# Altium footprint library SnapEDApcb.PcbLib: 5 footprints
Each footprint in its own frame and in the unit in brackets; x right, y up, seen from the top. Pads: shape width x height; smd on the part's side, far side on the other; paste and mask are expansions set on the pad; w line width, h text height; cw(c..) or ccw(c..) is an arc to the next point about the centre after c.
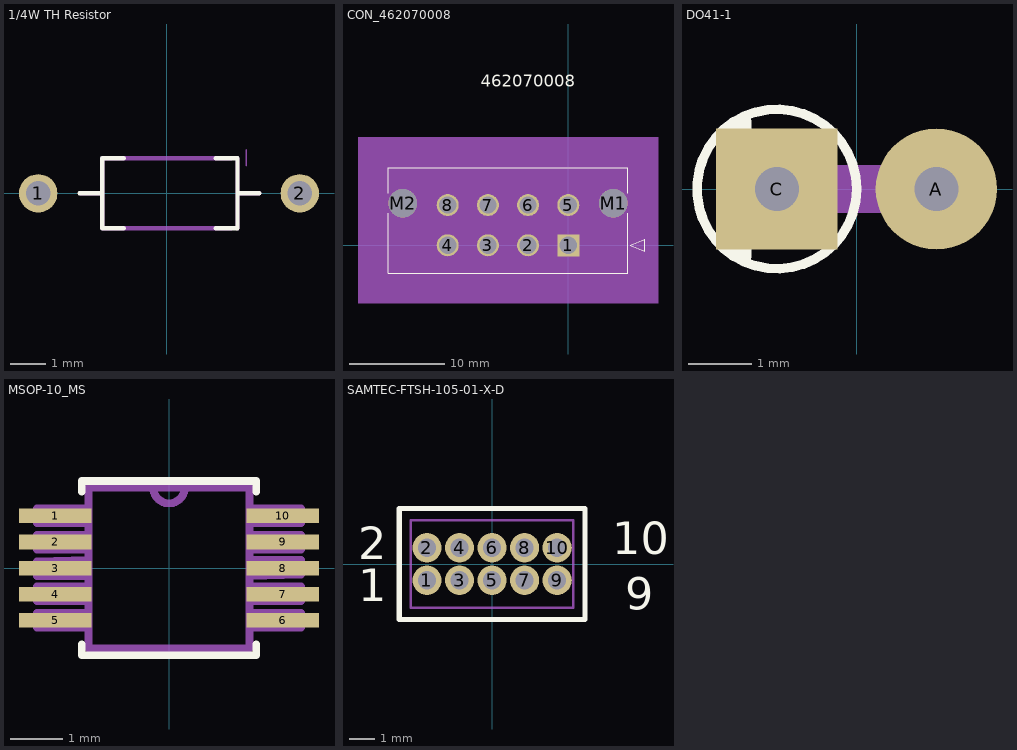
[diagram p0: the footprints below, top view; thin cyan lines are the x and y axes]

## 1/4W TH Resistor [mm]
pads (2):
  round 1.1 hole 0.7: 1(-3.683,0) 2(3.81,0)
Top Overlay:
  lines w0.127: -2.5,0 -1.88,0 ; -1.23,-1 -1.85,-1 -1.85,0 -1.85,1 -1.23,1 ; 1.405,-1 2.025,-1 2.025,0 ; 1.405,1 2.025,1 2.025,0 ; 2.645,0 2.025,0
Mechanical 13:
  lines w0.127: -2.47,0 -1.85,0 ; 1.85,-1 -1.85,-1 -1.85,0 ; 1.85,1 -1.85,1 -1.85,0 ; 2.025,-1 2.025,0 ; 2.025,1 2.025,0 ; 2.645,0 2.025,0
Mechanical 15:
  lines w0.05: 2.275,0.8 2.275,1.25
3D body "axial resistor 6mm 7.6pitch.STEP": height 2.17, standoff -2.97, extent -3.925,-1.125 3.975,1.025

## CON_462070008 [mm]
pads (10):
  rect 2.3x2.3 hole 1.8 mask+0.076: 1(0,0)
  round 2.3 hole 1.8 mask+0.076: 2(-4.2,0) 3(-8.4,0) 4(-12.6,0) 5(0,4.2) 6(-4.2,4.2) 7(-8.4,4.2) 8(-12.6,4.2)
  round 3 hole 3 unplated mask+0.076: M1(4.7,4.391) M2(-17.3,4.391)
Top Overlay:
  lines w0.127: -18.8,3.365 -18.8,-2.9 6.2,-2.9 6.2,3.365 ; -18.8,5.417 -18.8,8.1 6.2,8.1 6.2,5.417 ; 6.454,0 7.978,0.635 7.978,-0.635 6.454,0
  text "462070008" at -9.157,16.57 h1.27
Mechanical 3:
  text "PTH_DRILL_SIZE:_1.8_MM,_TOL:_+0.05/-0.05" at -19,-10.1 h1.27
  text "NPTH_DRILL_SIZE:_3.0_MM,_TOL:_+0.03/-0.03" at -19.317,-12.64 h1.27
Mechanical 5:
  region: -21.975,11.275 9.375,11.275 9.375,-6.075 -21.975,-6.075
Mechanical 10:
  text "PTH_DRILL_SIZE:_1.8_MM,_TOL:_+0.05/-0.05" at -19,-10.1 h1.27
  text "NPTH_DRILL_SIZE:_3.0_MM,_TOL:_+0.03/-0.03" at -19.317,-12.64 h1.27
Mechanical 13:
  lines w0.127: -18.8,-2.9 6.2,-2.9 6.2,8.1 -18.8,8.1 -18.8,-2.9 ; 6.454,0 7.978,0.635 7.978,-0.635 6.454,0
  text "462070008" at -9.157,16.57 h1.27
Mechanical 15:
  region: 7.47,9.37 -20.07,9.37 -20.07,-4.17 7.47,-4.17
  lines w0.127: -20.07,-4.17 -20.07,9.37 7.47,9.37 7.47,-4.17 -20.07,-4.17
3D body "462070008.stp": height 13.15, standoff -4.11, extent -18.775,-2.875 6.285,8.125
3D body: height 0.25, standoff 0, extent 0,0 0.254,0.254

## DO41-1 [mil]
pads (2):
  round 76 hole 27.56: A(50,0)
  rect 76x76 hole 27.56: C(-50,0)
Top Overlay:
  circle w6: c-50,0 r50
  lines w10: -80,-37 -80,37 ; -71,-42 -71,42
Mechanical 13:
  lines w30: -45,0 50,0

## MSOP-10_MS [mil]
pads (10):
  rect 55x11 smd: 1(-86,39.4) 2(-86,19.7) 3(-86,0) 4(-86,-19.7) 5(-86,-39.4) 6(86,-39.4) 7(86,-19.7) 8(86,0) 9(86,19.7) 10(86,39.4)
Top Overlay:
  lines w6: -66,-58 -66,-66 66,-66 66,-58 ; -66,58 -66,66 66,66 66,58
Mechanical 13:
  lines w6: -12,61 ccw(c0,61) 12,61 ; -12,61 12,61 ; -12,61 -61,61 -61,-61 61,-61 61,61 12,61 ; -100,-45 -100,-34 -61,-34 -61,-45 -100,-45 ; -100,-25 -100,-14 -61,-14 -61,-25 -100,-25 ; -100,-6 -100,5 -61,6 -61,-6 -100,-6 ; -100,14 -100,25 -61,25 -61,14 -100,14 ; -100,34 -100,45 -61,45 -61,34 -100,34 ; 61,-45 61,-34 100,-34 100,-45 61,-45 ; 61,-25 61,-14 100,-14 100,-25 61,-25 ; 61,-6 61,6 100,6 100,-5 61,-6 ; 61,14 61,25 100,25 100,14 61,14 ; 61,34 61,45 100,45 100,34 61,34

## SAMTEC-FTSH-105-01-X-D [mil]
pads (10):
  round 45 hole 27.95 mask+0: 1(-100,-25) 2(-100,25) 3(-50,-25) 4(-50,25) 5(0,-25) 6(0,25) 7(50,-25) 8(50,25) 9(100,-25) 10(100,25)
Top Overlay:
  lines w7.87: -142.72,-85.24 142.72,-85.24 142.72,85.24 -142.72,85.24 -142.72,-85.24
  text "10" at 185,15 h50
  text "9" at 205,-70 h50
  text "2" at -206.02,7.01 h50
  text "1" at -206.02,-57.01 h50
Top Solder:
  circle w0: c100,25 r24.49
  circle w0: c100,-25 r24.49
  circle w0: c50,25 r24.49
  circle w0: c50,-25 r24.49
  circle w0: c0,25 r24.49
  circle w0: c0,-25 r24.49
  circle w0: c-50,25 r24.49
  circle w0: c-50,-25 r24.49
  circle w0: c-100,25 r24.49
  circle w0: c-100,-25 r24.49
Bottom Solder:
  circle w0: c100,25 r24.49
  circle w0: c100,-25 r24.49
  circle w0: c50,25 r24.49
  circle w0: c50,-25 r24.49
  circle w0: c0,25 r24.49
  circle w0: c0,-25 r24.49
  circle w0: c-50,25 r24.49
  circle w0: c-50,-25 r24.49
  circle w0: c-100,25 r24.49
  circle w0: c-100,-25 r24.49
Mechanical 13:
  lines w3.94: -125,-67.48 -125,67.48 ; -125,-67.48 -75,-67.48 ; -125,-67.48 -75,-67.48 ; -125,67.48 -75,67.48 ; -125,67.48 -75,67.48 ; -107.99,-32.99 -107.99,-17.01 ; -107.99,-32.99 -92.01,-32.99 ; -107.99,-32.99 -92.01,-32.99 ; -107.99,-32.99 -107.99,-17.01 ; -107.99,-17.01 -92.01,-17.01 ; -107.99,-17.01 -92.01,-17.01 ; -107.99,17.01 -107.99,32.99 ; -107.99,17.01 -92.01,17.01 ; -107.99,17.01 -92.01,17.01 ; -107.99,17.01 -107.99,32.99 ; -107.99,32.99 -92.01,32.99 ; -107.99,32.99 -92.01,32.99 ; -92.01,-32.99 -92.01,-17.01 ; -92.01,-32.99 -92.01,-17.01 ; -92.01,17.01 -92.01,32.99 ; -92.01,17.01 -92.01,32.99 ; -75,-67.48 -25,-67.48 ; -75,-67.48 -25,-67.48 ; -75,67.48 -25,67.48 ; -75,67.48 -25,67.48 ; -57.99,-32.99 -57.99,-17.01 ; -57.99,-32.99 -42.01,-32.99 ; -57.99,-32.99 -42.01,-32.99 ; -57.99,-32.99 -57.99,-17.01 ; -57.99,-17.01 -42.01,-17.01 ; -57.99,-17.01 -42.01,-17.01 ; -57.99,17.01 -57.99,32.99 ; -57.99,17.01 -42.01,17.01 ; -57.99,17.01 -42.01,17.01 ; -57.99,17.01 -57.99,32.99 ; -57.99,32.99 -42.01,32.99 ; -57.99,32.99 -42.01,32.99 ; -42.01,-32.99 -42.01,-17.01 ; -42.01,-32.99 -42.01,-17.01 ; -42.01,17.01 -42.01,32.99 ; -42.01,17.01 -42.01,32.99 ; -25,-67.48 25,-67.48 ; -25,-67.48 25,-67.48 ; -25,67.48 25,67.48 ; -25,67.48 25,67.48 ; -7.99,-32.99 -7.99,-17.01 ; -7.99,-32.99 7.99,-32.99 ; -7.99,-32.99 7.99,-32.99 ; -7.99,-32.99 -7.99,-17.01 ; -7.99,-17.01 7.99,-17.01 ; -7.99,-17.01 7.99,-17.01 ; -7.99,17.01 -7.99,32.99 ; -7.99,17.01 7.99,17.01 ; -7.99,17.01 7.99,17.01 ; -7.99,17.01 -7.99,32.99 ; -7.99,32.99 7.99,32.99 ; -7.99,32.99 7.99,32.99 ; 7.99,-32.99 7.99,-17.01 ; 7.99,-32.99 7.99,-17.01 ; 7.99,17.01 7.99,32.99 ; 7.99,17.01 7.99,32.99 ; 25,-67.48 75,-67.48 ; 25,-67.48 75,-67.48 ; 25,67.48 75,67.48 ; 25,67.48 75,67.48 ; 42.01,-32.99 42.01,-17.01 ; 42.01,-32.99 57.99,-32.99 ; 42.01,-32.99 57.99,-32.99 ; 42.01,-32.99 42.01,-17.01 ; 42.01,-17.01 57.99,-17.01 ; 42.01,-17.01 57.99,-17.01 ; 42.01,17.01 42.01,32.99 ; 42.01,17.01 57.99,17.01 ; 42.01,17.01 57.99,17.01 ; 42.01,17.01 42.01,32.99 ; 42.01,32.99 57.99,32.99 ; 42.01,32.99 57.99,32.99 ; 57.99,-32.99 57.99,-17.01 ; 57.99,-32.99 57.99,-17.01 ; 57.99,17.01 57.99,32.99 ; 57.99,17.01 57.99,32.99 ; 75,-67.48 125,-67.48 125,67.48 75,67.48 ; -142.72,-85.24 142.72,-85.24 142.72,85.24 -142.72,85.24 -142.72,-85.24 ; 92.01,-32.99 92.01,-17.01 107.99,-17.01 107.99,-32.99 92.01,-32.99 ; 92.01,17.01 92.01,32.99 107.99,32.99 107.99,17.01 92.01,17.01
  text "2" at -206.02,7.01 h50
  text "1" at -206.02,-57.01 h50
3D body "FTSH-105-01-F-D.stp": height 219, standoff -90, extent -124.99,-67.5 125.01,67.5